# Altium schematic symbol library CH32V003.SchLib: 4 symbols
Pins are listed as number, name and electrical type; pins without a type are passive.

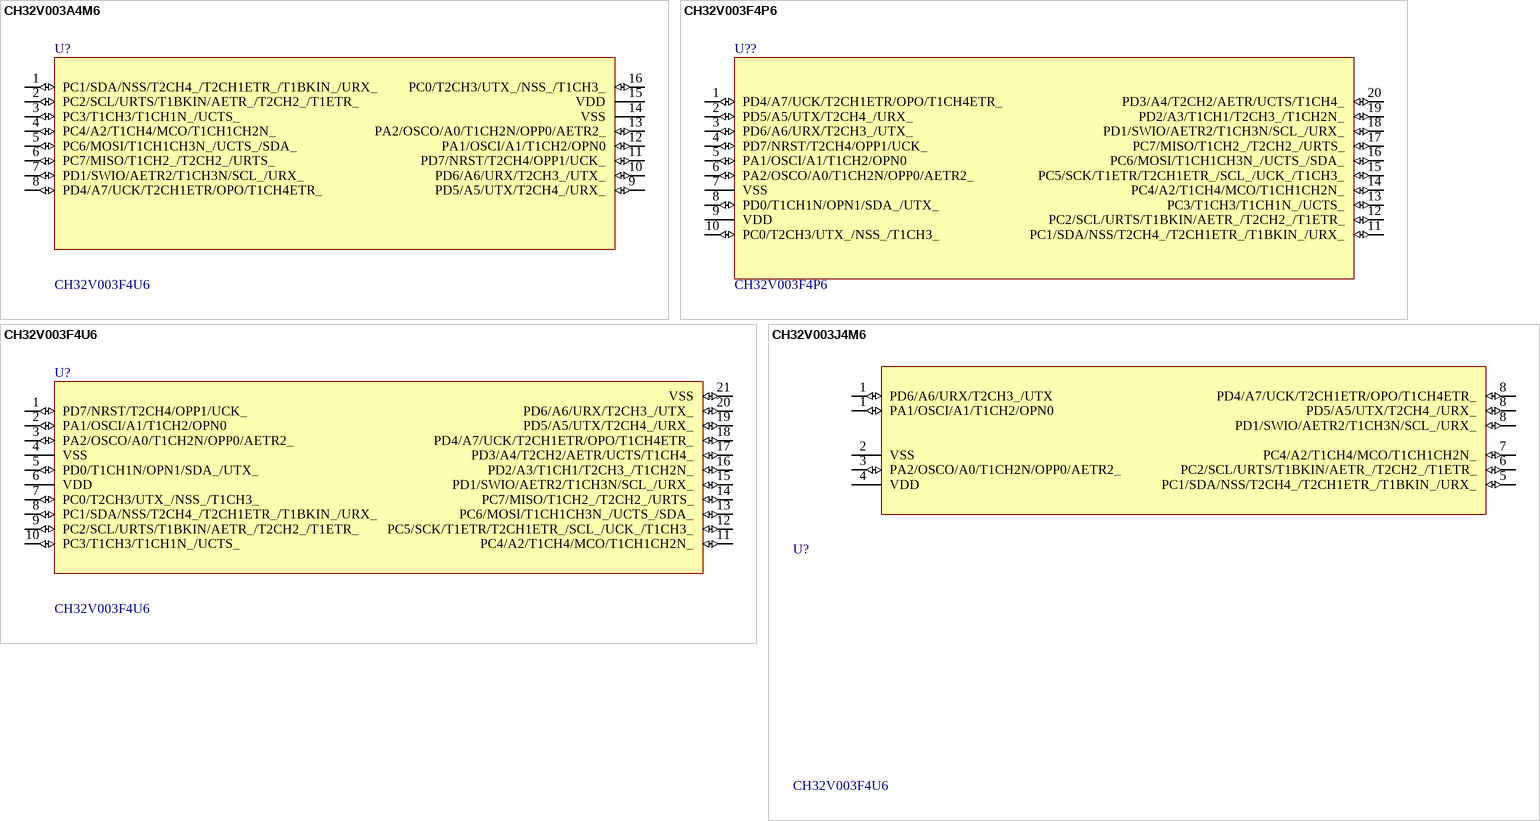
[diagram p0: symbols CH32V003A4M6 to CH32V003J4M6]

## CH32V003A4M6
designator U?, comment CH32V003F4U6
RISC-V MCU, 48MHz
footprint SOIC16 (Footprint not found)
pins: 1 PC1/SDA/NSS/T2CH4_/T2CH1ETR_/T1BKIN_/URX_ (io), 2 PC2/SCL/URTS/T1BKIN/AETR_/T2CH2_/T1ETR_ (io), 3 PC3/T1CH3/T1CH1N_/UCTS_ (io), 4 PC4/A2/T1CH4/MCO/T1CH1CH2N_ (io), 5 PC6/MOSI/T1CH1CH3N_/UCTS_/SDA_ (io), 6 PC7/MISO/T1CH2_/T2CH2_/URTS_ (io), 7 PD1/SWIO/AETR2/T1CH3N/SCL_/URX_ (io), 8 PD4/A7/UCK/T2CH1ETR/OPO/T1CH4ETR_ (io), 9 PD5/A5/UTX/T2CH4_/URX_ (io), 10 PD6/A6/URX/T2CH3_/UTX_ (io), 11 PD7/NRST/T2CH4/OPP1/UCK_ (io), 12 PA1/OSCI/A1/T1CH2/OPN0 (io), 13 PA2/OSCO/A0/T1CH2N/OPP0/AETR2_ (io), 14 VSS (power), 15 VDD (power), 16 PC0/T2CH3/UTX_/NSS_/T1CH3_ (io)

## CH32V003F4P6
designator U??
RISC-V MCU, 48MHz
footprint TSSOP20
pins: 1 PD4/A7/UCK/T2CH1ETR/OPO/T1CH4ETR_ (io), 2 PD5/A5/UTX/T2CH4_/URX_ (io), 3 PD6/A6/URX/T2CH3_/UTX_ (io), 4 PD7/NRST/T2CH4/OPP1/UCK_ (io), 5 PA1/OSCI/A1/T1CH2/OPN0 (io), 6 PA2/OSCO/A0/T1CH2N/OPP0/AETR2_ (io), 7 VSS (power), 8 PD0/T1CH1N/OPN1/SDA_/UTX_ (io), 9 VDD (power), 10 PC0/T2CH3/UTX_/NSS_/T1CH3_ (io), 11 PC1/SDA/NSS/T2CH4_/T2CH1ETR_/T1BKIN_/URX_ (io), 12 PC2/SCL/URTS/T1BKIN/AETR_/T2CH2_/T1ETR_ (io), 13 PC3/T1CH3/T1CH1N_/UCTS_ (io), 14 PC4/A2/T1CH4/MCO/T1CH1CH2N_ (io), 15 PC5/SCK/T1ETR/T2CH1ETR_/SCL_/UCK_/T1CH3_ (io), 16 PC6/MOSI/T1CH1CH3N_/UCTS_/SDA_ (io), 17 PC7/MISO/T1CH2_/T2CH2_/URTS_ (io), 18 PD1/SWIO/AETR2/T1CH3N/SCL_/URX_ (io), 19 PD2/A3/T1CH1/T2CH3_/T1CH2N_ (io), 20 PD3/A4/T2CH2/AETR/UCTS/T1CH4_ (io)

## CH32V003F4U6
designator U?
RISC-V MCU, 48MHz
footprint QFN-20
pins: 1 PD7/NRST/T2CH4/OPP1/UCK_ (io), 2 PA1/OSCI/A1/T1CH2/OPN0 (io), 3 PA2/OSCO/A0/T1CH2N/OPP0/AETR2_ (io), 4 VSS (power), 5 PD0/T1CH1N/OPN1/SDA_/UTX_ (io), 6 VDD (power), 7 PC0/T2CH3/UTX_/NSS_/T1CH3_ (io), 8 PC1/SDA/NSS/T2CH4_/T2CH1ETR_/T1BKIN_/URX_ (io), 9 PC2/SCL/URTS/T1BKIN/AETR_/T2CH2_/T1ETR_ (io), 10 PC3/T1CH3/T1CH1N_/UCTS_ (io), 11 PC4/A2/T1CH4/MCO/T1CH1CH2N_ (io), 12 PC5/SCK/T1ETR/T2CH1ETR_/SCL_/UCK_/T1CH3_ (io), 13 PC6/MOSI/T1CH1CH3N_/UCTS_/SDA_ (io), 14 PC7/MISO/T1CH2_/T2CH2_/URTS_ (io), 15 PD1/SWIO/AETR2/T1CH3N/SCL_/URX_ (io), 16 PD2/A3/T1CH1/T2CH3_/T1CH2N_ (io), 17 PD3/A4/T2CH2/AETR/UCTS/T1CH4_ (io), 18 PD4/A7/UCK/T2CH1ETR/OPO/T1CH4ETR_ (io), 19 PD5/A5/UTX/T2CH4_/URX_ (io), 20 PD6/A6/URX/T2CH3_/UTX_ (io), 21 VSS (io)

## CH32V003J4M6
designator U?, comment CH32V003F4U6
RISC-V MCU, 48MHz
footprint SOIC8N
pins: 1 PD6/A6/URX/T2CH3_/UTX  (io), 1 PA1/OSCI/A1/T1CH2/OPN0 (io), 2 VSS (power), 3 PA2/OSCO/A0/T1CH2N/OPP0/AETR2_ (io), 4 VDD (power), 5 PC1/SDA/NSS/T2CH4_/T2CH1ETR_/T1BKIN_/URX_ (io), 6 PC2/SCL/URTS/T1BKIN/AETR_/T2CH2_/T1ETR_ (io), 7 PC4/A2/T1CH4/MCO/T1CH1CH2N_ (io), 8 PD4/A7/UCK/T2CH1ETR/OPO/T1CH4ETR_ (io), 8 PD5/A5/UTX/T2CH4_/URX_ (io), 8 PD1/SWIO/AETR2/T1CH3N/SCL_/URX_ (io)